# EAGLE library part NXP_9DOF (library ct-bot)
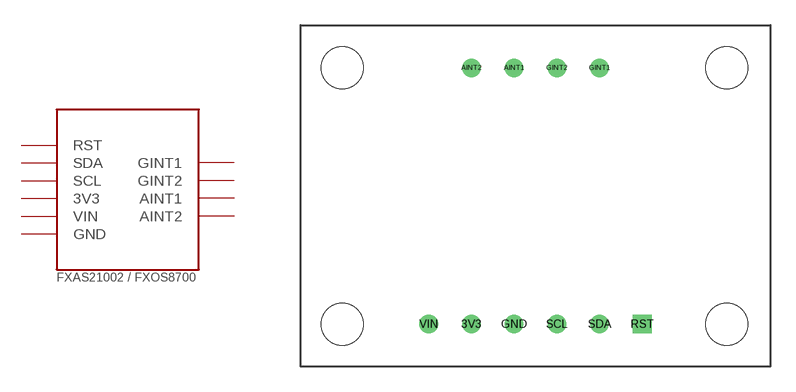
[diagram p35: symbol with the pads of NXP_9DOF; footprint NXP_9DOF]

Designator prefix -

## NXP_9DOF  [NXP_9DOF]
3V3  3V3  out
AINT1  AINT1  out
AINT2  AINT2  out
GINT1  GINT1  out
GINT2  GINT2  out
GND  GND  pwr
RST  RST  in
SCL  SCL  in
SDA  SDA
VIN  VIN  pwr

## Footprint NXP_9DOF (pad centres in mm)
drill 0.6: 3V3 -3.81,-7.62; AINT1 -1.27,7.62; AINT2 -3.81,7.62; GINT1 3.81,7.62; GINT2 1.27,7.62; GND -1.27,-7.62; SCL 1.27,-7.62; SDA 3.81,-7.62; VIN -6.35,-7.62
drill 0.6 square: RST 6.35,-7.62
hole 2.5 at -11.49,-7.62
hole 2.5 at 11.37,-7.62
hole 2.5 at -11.49,7.62
hole 2.5 at 11.37,7.62